# EAGLE library part CAT25320VI-GT3 (library Catalyst_Semiconductor_By_element14_Batch_1)
32-Kb SPI Serial CMOS EEPROM
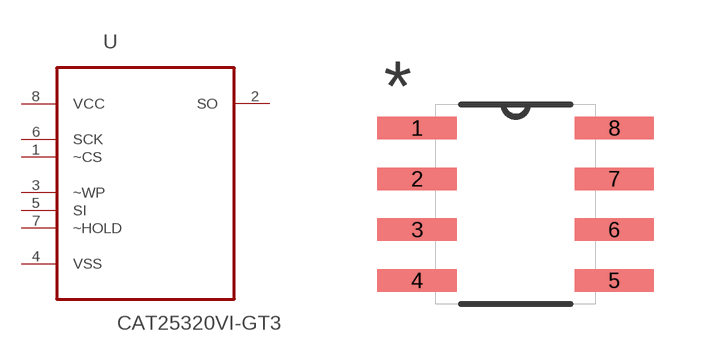
[diagram p15: symbol with the pads of SOIC127P600X175-8N; footprint SOIC127P600X175-8N]

Designator prefix U

## CAT25320VI-GT3 (MPN: CAT25320VI-GT3; OC_FARNELL: 1718146; OC_NEWARK: 08R5430; PACKAGE: SOIC-8; SUPPLIER: CATALYST SEMICONDUCTOR)  [SOIC127P600X175-8N]
1  ~CS  in
2  SO  out
3  ~WP  in
4  VSS  pas
5  SI  in
6  SCK  in
7  ~HOLD  in
8  VCC  pwr

## Footprint SOIC127P600X175-8N (pad centres in mm)
smd 1.981 x 0.559: 1 -2.464,1.905; 2 -2.464,0.635; 3 -2.464,-0.635; 4 -2.464,-1.905; 5 2.464,-1.905; 6 2.464,-0.635; 7 2.464,0.635; 8 2.464,1.905